# EAGLE library part LT3686A (library PowerProducts)
LT-Spice library generated with : ltspice.ulp from: D:/Program Files (x86)/LTC/LTspiceIV/lib/sym/PowerProducts/LT3689*.asy at 07.10.2012 16:34:52
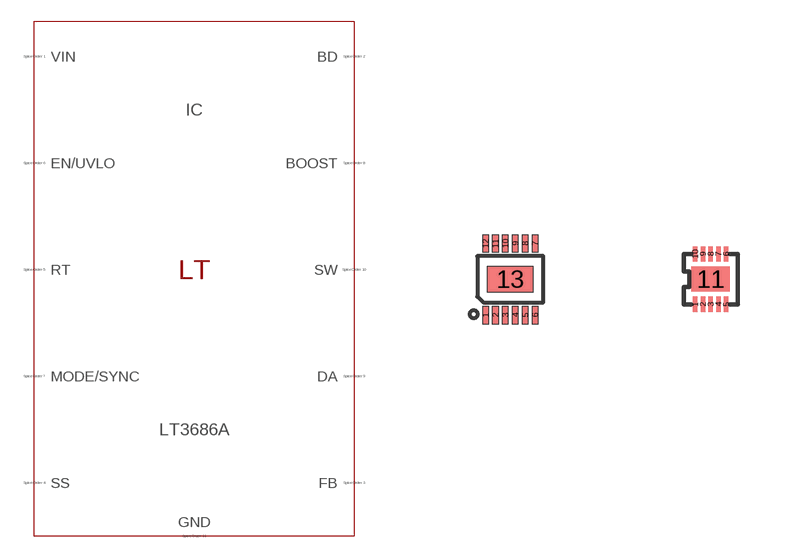
[diagram p87: symbol with the pads of MSOP12(MSE); footprints MSOP12(MSE), DFN10(DD)]

Designator prefix IC

## LT3686AMSE (SPICEMODEL: LT3686A.sub; SPICEPREFIX: X; VALUE2: LT3686A)  [MSOP12(MSE)]
1  GND  pas
2  VIN  pas
3  BD  pas
4  FB  pas
5  SS  pas
6  RT  pas
7  EN/UVLO  pas
8  MODE/SYNC  pas
9  BOOST  pas
10  DA  pas
11  SW  pas
12  SW  pas
13  GND  pas

## LT3686A (SPICEMODEL: LT3686A.sub; SPICEPREFIX: X; VALUE2: LT3686A)  [DFN10(DD)]
1  VIN  pas
2  BD  pas
3  FB  pas
4  SS  pas
5  RT  pas
6  EN/UVLO  pas
7  MODE/SYNC  pas
8  BOOST  pas
9  DA  pas
10  SW  pas
11  GND  pas

## Footprint MSOP12(MSE) (pad centres in mm)
Package generated from: MSOP12(MSE).asc (!PADS-POWERPCB-V9.3-BASIC! DESIGN DATABASE ASCII FILE 1.0) with :import-pads-powerpcb-v5.ulp Version 1.0.1 at 04.10.2012 14:11:19
smd 0.165 x 0.435: 1 -0.619,-0.895; 2 -0.372,-0.895; 3 -0.124,-0.895; 4 0.124,-0.895; 5 0.372,-0.895; 6 0.619,-0.895; 7 0.619,0.895; 8 0.372,0.895; 9 0.124,0.895; 10 -0.124,0.895; 11 -0.372,0.895; 12 -0.619,0.895
smd 1.161 x 0.629: 13 0,0

## Footprint DFN10(DD) (pad centres in mm)
Package generated from: DFN10(DD).asc (!PADS-POWERPCB-V9.3-BASIC! DESIGN DATABASE ASCII FILE 1.0) with :import-pads-powerpcb-v5.ulp Version 1.0.1 at 04.10.2012 14:11:16
smd 0.116 x 0.387: 1 -0.387,-0.629; 2 -0.194,-0.629; 3 0,-0.629; 4 0.194,-0.629; 5 0.387,-0.629; 6 0.387,0.629; 7 0.194,0.629; 8 0,0.629; 9 -0.194,0.629; 10 -0.387,0.629
smd 0.968 x 0.629: 11 0,0